# Altium footprint library resistor.PcbLib: 1 footprints
Each footprint in its own frame and in the unit in brackets; x right, y up, seen from the top. Pads: shape width x height; smd on the part's side, far side on the other; paste and mask are expansions set on the pad; w line width, h text height; cw(c..) or ccw(c..) is an arc to the next point about the centre after c.
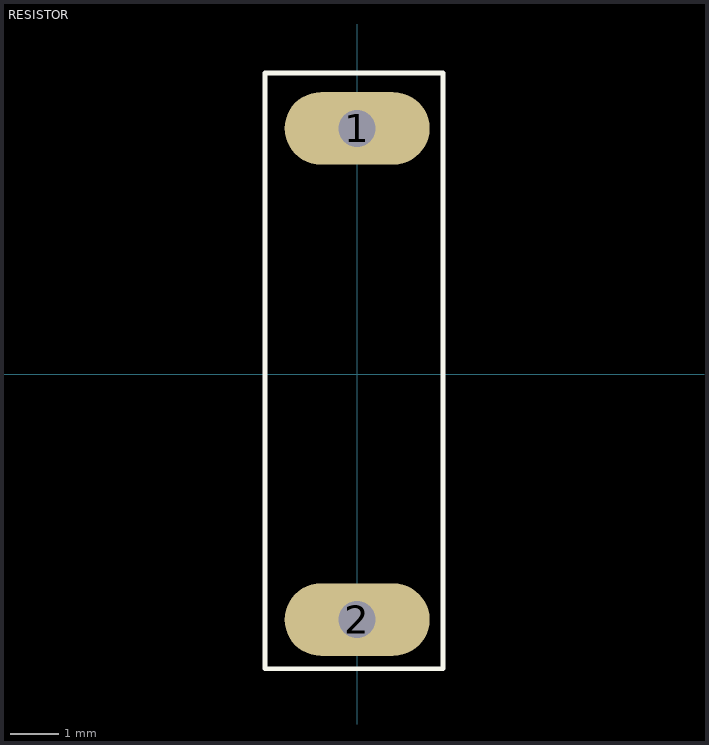
[diagram p0: the footprint, top view; thin cyan lines are the x and y axes]

## RESISTOR [mm]
pads (2):
  oval 3x1.5 hole 0.762: 1(0,5.08) 2(0,-5.08)
Top Overlay:
  lines w0.1: -1.905,-6.096 -1.905,6.223 -1.651,6.223 1.778,6.223 1.778,-6.096 -1.905,-6.096
3D body "User Library-Resistor2.STEP": height 2.37, standoff -1.85, extent -1.168,-5.283 1.169,5.41